# Altium schematic symbol library VJ1206A330JXCAP.SchLib: 1 symbol
Pins are listed as number, name and electrical type; pins without a type are passive.

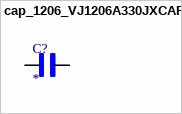
[diagram p0: symbol cap_1206_VJ1206A330JXCAP]

## cap_1206_VJ1206A330JXCAP
designator C?
cap 1206 (3216 Metric); MF: Vishay Vitramon; MP: VJ1206A330JXCAP; SnapEDA_Link: https://www.snapeda.com/parts/VJ1206A330JXCAP/Vishay/view-part/?ref=snap; Package: 3216 Vishay Vitramon; Value: *; Check_prices: https://www.snapeda.com/parts/VJ1206A330JXCAP/Vishay/view-part/?ref=eda
footprint CAPC3216X170N
pins: 1, 2